# Altium footprint library Switch.PcbLib: 23 footprints (part 1 of 2)
Each footprint in its own frame and in the unit in brackets; x right, y up, seen from the top. Pads: shape width x height; smd on the part's side, far side on the other; paste and mask are expansions set on the pad; w line width, h text height; cw(c..) or ccw(c..) is an arc to the next point about the centre after c.
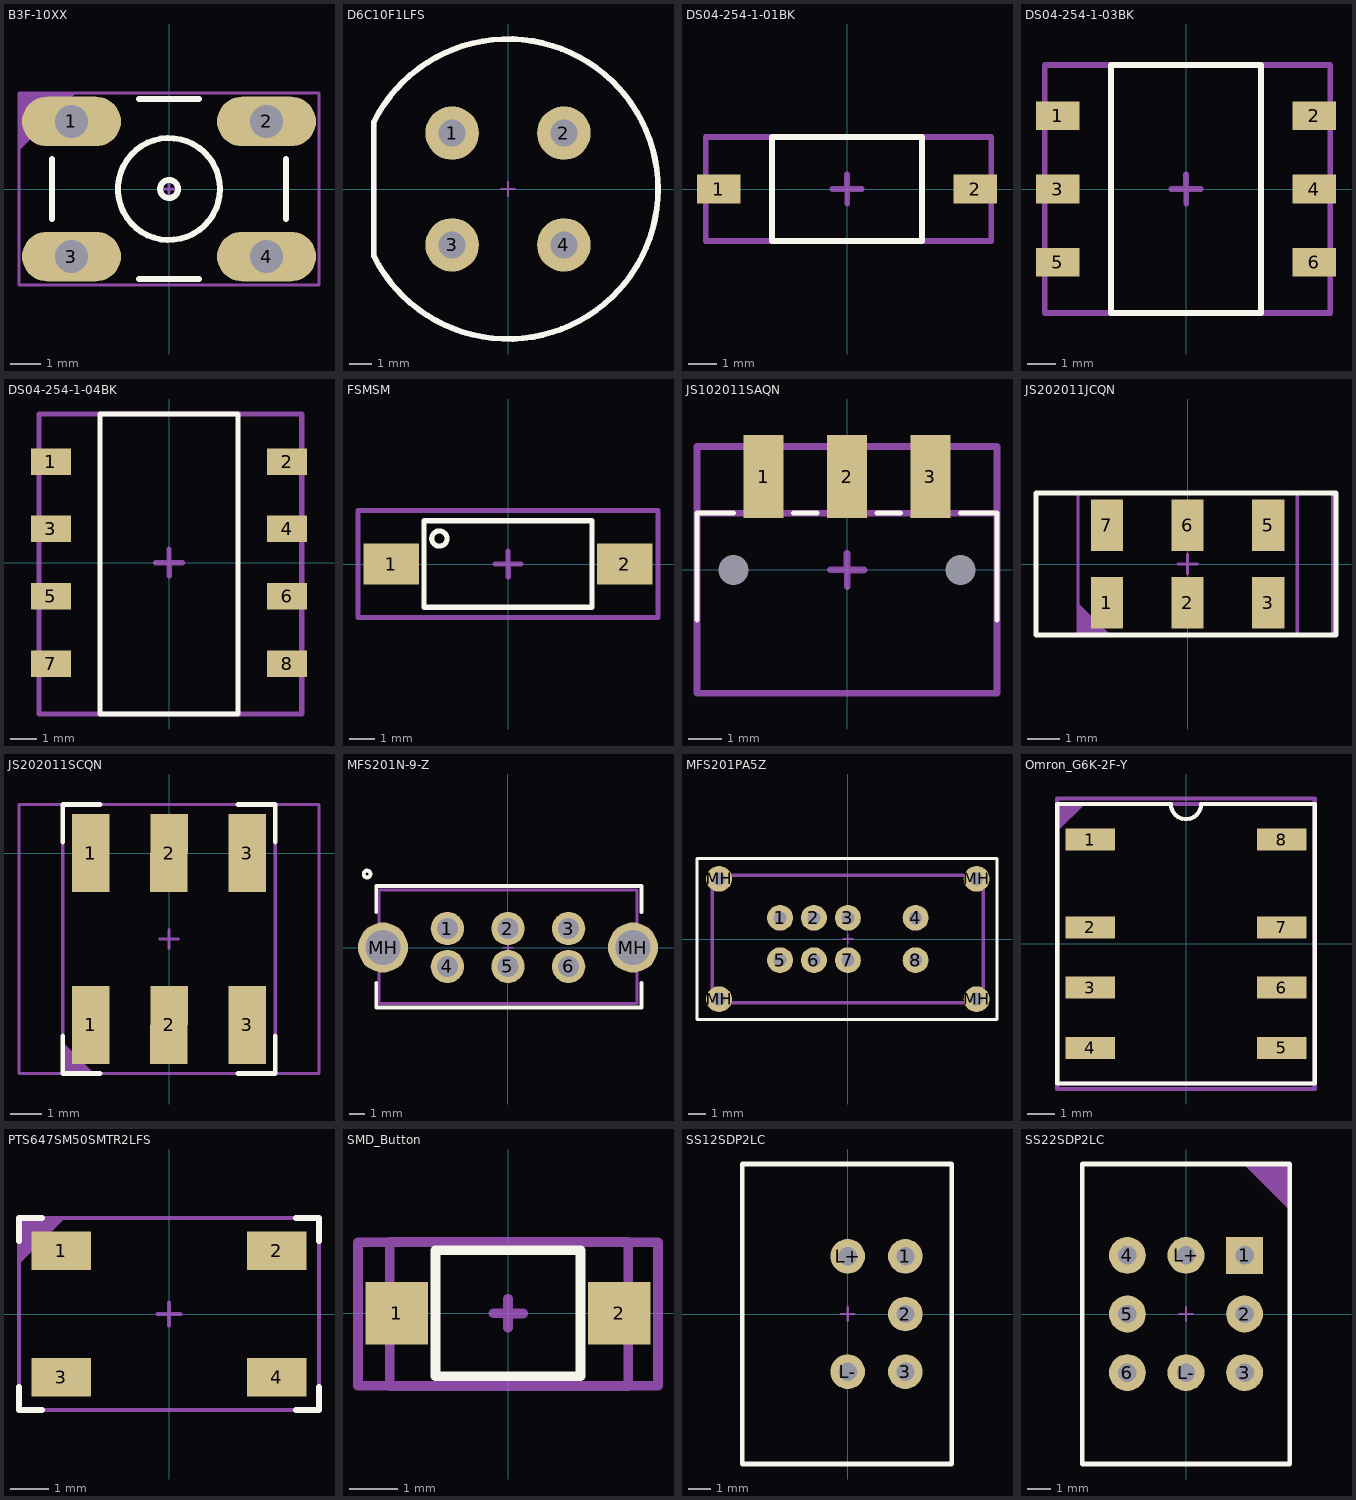
[diagram p0: the footprints below, top view; thin cyan lines are the x and y axes]

## B3F-10XX [mm]
pads (4):
  oval 3.3x1.65 hole 1.1: 1(-3.25,2.25) 2(3.25,2.25) 3(-3.25,-2.25) 4(3.251,-2.25)
Top Overlay:
  circle w0.2: c0,0 r1.7
  circle w0.2: c0,0 r0.3
  lines w0.2: -3.9,-1 -3.9,1 ; -1,-3 1,-3 ; -1,3 1,3 ; 3.9,-1 3.9,1
Top Assembly:
  region: -5,3.2 -5,1.3 -3.1,3.2
  lines w0.1: -5,-3.2 -5,3.2 5,3.2 5,-3.2 -5,-3.2
  text "'.Designator'" at -8.633,-0.635 h1.52
Top Courtyard:
  lines w0.1: -0.3,0 0.3,0 ; 0,-0.3 0,0.3 ; -5,-3.2 5,-3.2 5,3.2 -5,3.2 -5,-3.2
3D body "B3F-1052--3DModel-STEP-273799.STEP": height 10.01, standoff -3.49, extent -3.85,-3 3.85,3

## D6C10F1LFS [mm]
pads (4):
  round 2.4 hole 1.2: 1(-2.5,2.5) 2(2.5,2.5) 3(-2.5,-2.5) 4(2.5,-2.5)
Top Overlay:
  lines w0.254: -6,-3 ccw(c0,0) -6,3 -6,-3
Top Assembly:
  lines w0.254: -6,-3 ccw(c0,0) -6,3 -6,-3
  text "'.Designator'" at -8.846,8.462 h1.52
Top Courtyard:
  lines w0.1: -0.3,0 0.3,0 ; 0,-0.3 0,0.3
  lines w0.254: -6,-3 ccw(c0,0) -6,3 -6,-3
3D body "User Library-C_K_D6R10_gris.STEP": height 14.2, standoff -3.7, extent -5.5,-6 5.988,6

## DS04-254-1-01BK [mm]
pads (2):
  rect 1.5x1 smd: 1(-4.45,0) 2(4.45,0)
Top Overlay:
  lines w0.2: -2.6,-1.8 2.6,-1.8 2.6,1.8 -2.6,1.8 -2.6,-1.8
Top Assembly:
  lines w0.2: -4.9,-1.8 5,-1.8 5,1.8 -4.9,1.8 -4.9,-1.8
  text "'.Designator'" at -4.522,-0.334 h0.8
Top Courtyard:
  lines w0.2: -0.5,0 0,0 0,0.5 ; 0.01,-0.5 0.01,0 ; 0.01,-0.004 0.51,-0.004 ; -4.9,-1.8 -4.9,1.8 5,1.8 5,-1.8 -4.9,-1.8
3D body "CUI_DEVICES_DS04-254-1-01BK-SMT.step": height 4.54, standoff -0.01, extent -4.95,-1.74 4.95,1.8

## DS04-254-1-03BK [mm]
pads (6):
  rect 1.5x1 smd: 1(-4.45,2.54) 2(4.45,2.54) 3(-4.45,0) 4(4.45,0) 5(-4.45,-2.54) 6(4.45,-2.54)
Top Overlay:
  lines w0.2: -2.6,-4.3 -2.6,4.3 2.6,4.3 2.6,-4.3 -2.6,-4.3
Top Assembly:
  lines w0.2: -4.9,-4.3 -4.9,4.3 5,4.3 5,-4.3 -4.9,-4.3
  text "'.Designator'" at -4.522,-0.334 h0.8
Top Courtyard:
  lines w0.2: -0.5,0 0,0 0,0.5 ; 0.01,-0.5 0.01,0 ; 0.01,-0.004 0.51,-0.004 ; -4.9,-4.3 5,-4.3 5,4.3 -4.9,4.3 -4.9,-4.3
3D body "CUI_DEVICES_DS04-254-1-03BK-SMT.step": height 4.54, standoff -0.01, extent -4.9,-4.31 5,4.31

## DS04-254-1-04BK [mm]
pads (8):
  rect 1.5x1 smd: 1(-4.45,3.81) 2(4.45,3.81) 3(-4.45,1.27) 4(4.45,1.27) 5(-4.45,-1.27) 6(4.45,-1.27) 7(-4.45,-3.81) 8(4.45,-3.81)
Top Overlay:
  lines w0.2: -2.6,-5.7 -2.6,5.6 2.6,5.6 2.6,-5.7 -2.6,-5.7
Top Assembly:
  lines w0.2: -4.9,-5.7 -4.9,5.6 5,5.6 5,-5.7 -4.9,-5.7
  text "'.Designator'" at -4.522,-0.334 h0.8
Top Courtyard:
  lines w0.2: -0.5,0 0,0 0,0.5 ; 0.01,-0.5 0.01,0 ; 0.01,-0.004 0.51,-0.004 ; -4.9,-5.7 5,-5.7 5,5.6 -4.9,5.6 -4.9,-5.7
3D body "CUI_DEVICES_DS04-254-1-04BK-SMT.step": height 4.54, standoff -0.01, extent -4.9,-5.58 5,5.58

## FSMSM [mm]
pads (2):
  rect 2.18x1.6 smd: 1(-4.59,0) 2(4.59,0)
Top Overlay:
  circle w0.2: c-2.7,1 r0.3
  lines w0.2: -3.3,-1.7 -3.3,1.7 3.3,1.7 3.3,-1.7 -3.3,-1.7
Top Assembly:
  lines w0.2: -5.9,-2.1 -5.9,2.1 5.9,2.1 5.9,-2.1 -5.9,-2.1
  text "'.Designator'" at -7.246,3.262 h1.52
Top Courtyard:
  lines w0.2: -0.5,0 0,0 0,0.5 ; 0.01,-0.5 0.01,0 ; 0.01,-0.004 0.51,-0.004 ; -5.9,-2.1 5.9,-2.1 5.9,2.1 -5.9,2.1 -5.9,-2.1
3D body "92f2863_fsmsm.stp": height 4.4, standoff -0.02, extent -4.985,-1.75 4.984,1.75

## JS102011SAQN [mm]
pads (5):
  rect 1.2x2.5 smd: 1(-2.5,2.8) 2(0,2.8) 3(2.5,2.8)
  round 0 hole 0.9 unplated: NC(-3.4,0) NC(3.4,0)
Top Overlay:
  lines w0.153: -4.5,-1.5 -4.5,1.7 -3.4,1.7 ; -1.6,1.7 -0.9,1.7 ; 0.9,1.7 1.6,1.7 ; 3.4,1.7 4.5,1.7 4.5,-1.5
Top Assembly:
  lines w0.2: -4.5,-3.7 -4.5,1.7 4.5,1.7 4.5,-3.7 -4.5,-3.7
  text "'.Designator'" at -4.522,-0.334 h0.8
Top Courtyard:
  lines w0.2: -0.5,0 0,0 0,0.5 ; 0.01,-0.5 0.01,0 ; 0.01,-0.004 0.51,-0.004 ; -4.5,-3.7 4.5,-3.7 4.5,3.7 -4.5,3.7 -4.5,-3.7
3D body "JS102011SAQN.stp": height 4.12, standoff -0.18, extent -4.49,-3.75 4.51,3.75

## JS202011JCQN [mm]
pads (6):
  rect 1x1.6 smd: 1(-2.5,-1.2) 2(0,-1.2) 3(2.5,-1.2) 5(2.5,1.2) 6(0,1.2) 7(-2.5,1.2)
Top Overlay:
  lines w0.153: -4.7,-2.2 -4.7,2.2 4.6,2.2 4.6,-2.2 -4.7,-2.2
Top Assembly:
  region: -3.4,-2.2 -2.4,-2.2 -3.4,-1.2
  lines w0.1: -3.4,-2.2 3.4,-2.2 3.4,2.2 -3.4,2.2 -3.4,-2.2
  text "'.Designator'" at -4.532,-0.333 h0.8
Top Courtyard:
  lines w0.1: -0.3,0 0.3,0 ; 0,-0.3 0,0.3 ; -4.7,-2.2 4.5,-2.2 4.5,2.2 -4.7,2.2 -4.7,-2.2
3D body "JS202011JCQN.stp": height 5.6, standoff 0, extent -4.5,-1.8 4.5,1.8

## JS202011SCQN [mm]
pads (6):
  rect 1.2x2.5 smd: 1(-2.5,-5.5) 1(-2.5,0) 2(0,-5.5) 2(0,0) 3(2.5,-5.5) 3(2.5,0)
Top Overlay:
  lines w0.153: -3.4,-5.85 -3.4,-7.05 -2.2,-7.05 ; -3.4,0.35 -3.4,1.55 -2.2,1.55 ; 2.2,-7.05 3.4,-7.05 3.4,-5.85 ; 2.2,1.55 3.4,1.55 3.4,0.35
Top Assembly:
  region: -3.4,-7.05 -2.4,-7.05 -3.4,-6.05
  lines w0.1: -3.4,-7.05 3.4,-7.05 3.4,1.55 -3.4,1.55 -3.4,-7.05
  text "'.Designator'" at -4.532,-3.083 h0.8
Top Courtyard:
  lines w0.1: -0.3,-2.75 0.3,-2.75 ; 0,-3.05 0,-2.45 ; -4.8,-7.05 -4.8,1.55 4.8,1.55 4.8,-7.05 -4.8,-7.05
3D body "JS202011SCQN--3DModel-STEP-269445.STEP": height 5.51, standoff 0, extent -4.5,-6.496 4.492,0.997

## MFS201N-9-Z [mm]
pads (8):
  round 2.2 hole 1.4: 1(-4,1.25) 2(0,1.25) 3(4,1.25) 4(-4,-1.25) 5(0,-1.25) 6(4,-1.25)
  round 3.3 hole 2.3: MH(-8.25,0) MH(8.25,0)
Top Overlay:
  circle w0.254: c-9.3,4.85 r0.224
  lines w0.254: -8.7,-2.35 -8.7,-3.95 8.8,-3.95 8.8,-2.35 ; -8.7,2.35 -8.7,4.05 8.8,4.05 8.8,2.35
Top Assembly:
  lines w0.2: -8.5,-3.7 8.5,-3.7 8.5,3.8 -8.5,3.8 -8.5,-3.7
  text "'.Designator'" at -8.346,5.012 h1.52
Top Courtyard:
  lines w0.1: -0.3,0 0.3,0 ; 0,-0.3 0,0.3
  lines w0.2: -8.5,-3.7 8.5,-3.7 8.5,3.8 -8.5,3.8 -8.5,-3.7
3D body "MFS201N-9-Z.stp": height 14.1, standoff -2.9, extent -8.5,-3.7 8.5,3.8

## MFS201PA5Z [mil]
pads (12):
  round 60 hole 30: 1(-157.48,49.21) 2(-78.74,49.21) 3(0,49.21) 4(157.48,49.21) 5(-157.48,-49.21) 6(-78.74,-49.21) 7(0,-49.21) 8(157.48,-49.21) MH(-299.21,-139.76) MH(-299.21,139.76) MH(299.21,-139.76) MH(299.21,139.76)
Top Overlay:
  lines w7.87: -350.39,-187.01 -350.39,187.01 346.46,187.01 346.46,-187.01 -350.39,-187.01
Top Assembly:
  lines w7.87: -314.96,-147.64 314.96,-147.64 314.96,147.64 -314.96,147.64 -314.96,-147.64
  text "'.Designator'" at -352.2,228.81 h60
Top Courtyard:
  lines w3.94: -11.81,0 11.81,0 ; 0,-11.81 0,11.81
  lines w7.87: -314.96,-147.64 314.96,-147.64 314.96,147.64 -314.96,147.64 -314.96,-147.64
3D body "MFS201PA-5-Z.stp": height 275.59, standoff -98.35, extent -315.94,-146.65 313.98,148.63

## Omron_G6K-2F-Y [mm]
pads (8):
  rect 1.8x0.8 smd: 1(-3.5,3.8) 2(-3.5,0.6) 3(-3.5,-1.6) 4(-3.5,-3.8) 5(3.5,-3.8) 6(3.5,-1.6) 7(3.5,0.6) 8(3.5,3.8)
Top Overlay:
  lines w0.153: -4.7,-5.1 -4.7,5.1 -0.55,5.1 ccw(c0,5.1) 0.55,5.1 4.7,5.1 4.7,-5.1 -4.7,-5.1
Top Assembly:
  region: -4.7,5.1 -4.7,4.1 -3.7,5.1
  lines w0.153: -4.7,-5.1 -4.7,5.1 4.7,5.1 4.7,-5.1 -4.7,-5.1
  text "'.Designator'" at -0.333,4.532 h0.8
Top Courtyard:
  lines w0.153: -4.7,-5.3 -4.7,5.3 4.7,5.3 4.7,-5.3 -4.7,-5.3
3D body "G6K-2F-Y-TR DC5.STEP": height 5.2, standoff 0, extent -3.9,-5 3.9,5

## PTS647SM50SMTR2LFS [mm]
pads (4):
  rect 1.55x1 smd: 1(-2.8,1.65) 2(2.8,1.65) 3(-2.8,-1.65) 4(2.8,-1.65)
Top Overlay:
  lines w0.153: -3.9,-1.9 -3.9,-2.5 -3.3,-2.5 ; -3.9,1.9 -3.9,2.5 -3.3,2.5 ; 3.3,-2.5 3.9,-2.5 3.9,-1.9 ; 3.3,2.5 3.9,2.5 3.9,1.9
Top Assembly:
  region: -3.9,2.5 -3.9,1.3 -2.7,2.5
  lines w0.1: -3.9,-2.5 3.9,-2.5 3.9,2.5 -3.9,2.5 -3.9,-2.5
  text "'.Designator'" at -4.532,-0.333 h0.8
Top Courtyard:
  lines w0.1: -0.3,0 0.3,0 ; 0,-0.3 0,0.3 ; -3.9,-2.5 3.9,-2.5 3.9,2.5 -3.9,2.5 -3.9,-2.5

## SMD_Button [mm]
pads (2):
  rect 1.3x1.3 smd: 1(-2.3,0) 2(2.3,0)
Top Overlay:
  lines w0.2: -1.5,-1.3 -1.5,1.3 1.5,1.3 1.5,-1.3 -1.5,-1.3
Top Assembly:
  lines w0.2: -2.444,-1.504 -2.444,1.471 2.484,1.471 2.484,-1.504 -2.444,-1.504
  text "'.Designator'" at -6.146,2.362 h1.52
Top Courtyard:
  lines w0.2: -0.3,0 0,0 ; 0,-0.3 0,0 ; 0,0.3 0,0 ; 0.018,-0.006 0.318,-0.006 ; -3.1,-1.5 3.1,-1.5 3.1,1.468 -3.1,1.468 -3.1,-1.5
3D body "User Library-Pushbutton3x4x2.STEP": height 2, standoff 0, extent -2.45,-1.45 2.45,1.45

## SS12SDP2LC [mil]
pads (5):
  round 60 hole 31.5: 1(100,100) 2(100,0) 3(100,-100) L+(0,100) L-(0,-100)
Top Overlay:
  lines w7.87: -182.28,-259.84 -182.28,259.84 179.92,259.84 179.92,-259.84 -182.28,-259.84
Top Assembly:
  lines w3.94: -182.28,-259.84 179.92,-259.84 179.92,259.84 -182.28,259.84 -182.28,-259.84
  text "'.Designator'" at -8.59,364.02 h60
Top Courtyard:
  lines w3.94: -11.81,0 11.81,0 ; 0,-11.81 0,11.81 ; -182.28,-259.84 -182.28,259.84 179.92,259.84 179.92,-259.84 -182.28,-259.84
3D body "AT4065F.stp": height 378.48, standoff 157.48, extent -169.88,-260 165.12,173
3D body "SS12SDP2LC.stp": height 259, standoff -133.91, extent -177.82,-256 176.18,256

## SS22SDP2LC [mm]
pads (8):
  rect 1.6x1.6 hole 0.8: 1(2.54,2.54)
  round 1.6 hole 0.8: 2(2.54,0) 3(2.54,-2.54) 4(-2.54,2.54) 5(-2.54,0) 6(-2.54,-2.54) L+(0,2.54) L-(0,-2.54)
Top Overlay:
  lines w0.2: -4.5,-6.5 4.5,-6.5 4.5,6.5 -4.5,6.5 -4.5,-6.5
Top Assembly:
  region: 2.5,6.5 4.5,4.5 4.5,6.5
  lines w0.1: -4.5,-6.5 4.5,-6.5 4.5,6.5 -4.5,6.5 -4.5,-6.5
  text "'.Designator'" at -0.218,9.246 h1.52
Top Courtyard:
  lines w0.1: -0.3,0 0.3,0 ; 0,-0.3 0,0.3 ; -4.5,-6.5 4.5,-6.5 4.5,6.5 -4.5,6.5 -4.5,-6.5
3D body "AT4065F.stp": height 9.61, standoff 4, extent -4.309,-6.5 4.2,4.498
3D body "SS22SDP2LC.stp": height 6.58, standoff -3.4, extent -4.512,-6.502 4.48,6.502